# Altium footprint library transformer.PcbLib: 7 footprints
Each footprint in its own frame and in the unit in brackets; x right, y up, seen from the top. Pads: shape width x height; smd on the part's side, far side on the other; paste and mask are expansions set on the pad; w line width, h text height; cw(c..) or ccw(c..) is an arc to the next point about the centre after c.
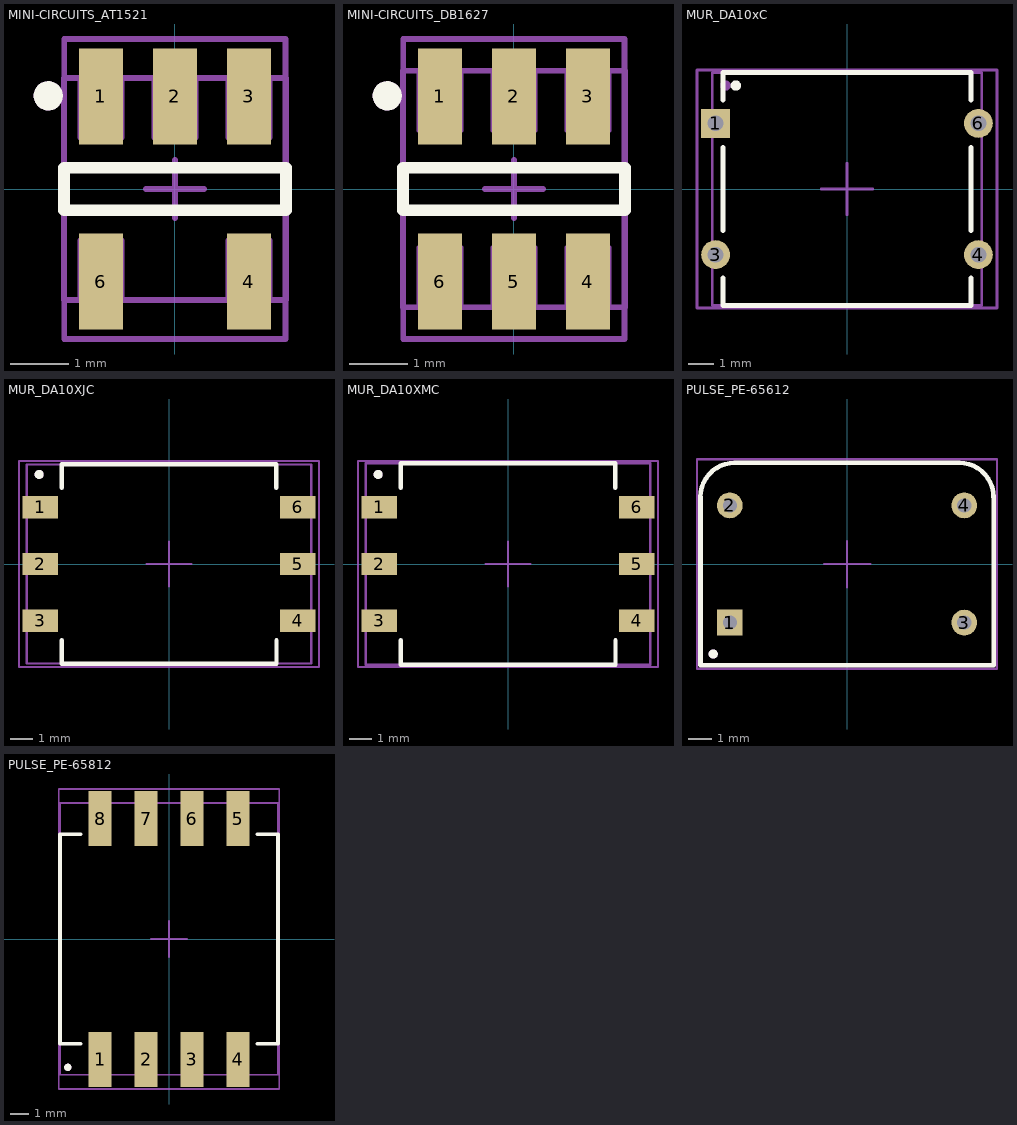
[diagram p0: the footprints below, top view; thin cyan lines are the x and y axes]

## MINI-CIRCUITS_AT1521 [mm] "MINI-CIRCUITS RF Transformer, Case AT1521, Body 3.81X3.81mm"
height 4.06
pads (5):
  rect 0.76x1.65 smd: 1(-1.27,1.59) 2(0,1.59) 3(1.27,1.59) 4(1.27,-1.59) 6(-1.27,-1.59)
Top Overlay:
  circle w0.25: c-2.175,1.6 r0.125
  lines w0.2: -1.905,-0.365 -1.905,0.365 1.905,0.365 1.905,-0.365 -1.905,-0.365
Mechanical 1:
  circle w0.25: c-2.175,1.6 r0.125
  lines w0.1: -1.625,-1.905 -1.625,-0.885 -0.915,-0.885 -0.915,-1.905 ; -1.625,1.905 -1.625,0.885 -0.915,0.885 -0.915,1.905 ; -0.355,1.905 -0.355,0.885 0.355,0.885 0.355,1.905 ; 0.915,-1.905 0.915,-0.885 1.625,-0.885 1.625,-1.905 ; 0.915,1.905 0.915,0.885 1.625,0.885 1.625,1.905 ; -1.905,-1.905 1.905,-1.905 1.905,1.905 -1.905,1.905 -1.905,-1.905
Mechanical 15:
  lines w0.1: -0.5,0 0,0 ; 0,-0.5 0,0 ; 0,0.5 0,0 ; 0.5,0 0,0 ; -1.9,-2.575 -1.9,2.575 1.9,2.575 1.9,-2.575 -1.9,-2.575
3D body "XFMR_MINI-CIRCUITS_AT1521.stp": height 4.06, standoff 0, extent -1.905,-1.905 1.905,1.905

## MINI-CIRCUITS_DB1627 [mm] "MINI-CIRCUITS RF Transformer, Case DB1627 - Body 4.06X3.81mm"
height 4.06
pads (6):
  rect 0.76x1.65 smd: 1(-1.27,1.59) 2(0,1.59) 3(1.27,1.59) 4(1.27,-1.59) 5(0,-1.59) 6(-1.27,-1.59)
Top Overlay:
  circle w0.25: c-2.175,1.6 r0.125
  lines w0.2: -1.905,-0.365 -1.905,0.365 1.905,0.365 1.905,-0.365 -1.905,-0.365
Mechanical 1:
  circle w0.25: c-2.175,1.6 r0.125
  lines w0.1: -1.905,-2.03 -1.905,2.03 1.905,2.03 1.905,-2.03 -1.905,-2.03 ; -1.625,-2.03 -1.625,-1.01 -0.915,-1.01 -0.915,-2.03 -1.625,-2.03 ; -1.625,1.01 -1.625,2.03 -0.915,2.03 -0.915,1.01 -1.625,1.01 ; -0.355,-2.03 -0.355,-1.01 0.355,-1.01 0.355,-2.03 -0.355,-2.03 ; -0.355,1.01 -0.355,2.03 0.355,2.03 0.355,1.01 -0.355,1.01 ; 0.915,-2.03 0.915,-1.01 1.625,-1.01 1.625,-2.03 0.915,-2.03 ; 0.915,1.01 0.915,2.03 1.625,2.03 1.625,1.01 0.915,1.01
Mechanical 15:
  lines w0.1: -0.5,0 0,0 ; 0,-0.5 0,0 ; 0,0.5 0,0 ; 0.5,0 0,0 ; -1.9,-2.575 1.9,-2.575 1.9,2.575 -1.9,2.575 -1.9,-2.575
3D body "XFMR_MINI-CIRCUITS_DB1627.stp": height 4.06, standoff 0, extent -1.905,-2.03 1.905,2.03

## MUR_DA10xC [mil]
pads (4):
  rect 44x44 hole 24: 1(-200,100)
  round 44 hole 24: 3(-200,-100) 4(200,-100) 6(200,100)
Top Overlay:
  circle w7.87: c-169.29,157.48 r3.94
  lines w7.87: -188.98,-135.83 -188.98,-177.17 188.98,-177.17 188.98,-135.83 ; -188.98,-62.99 -188.99,62.99 ; -188.99,135.83 -188.99,177.17 188.98,177.17 188.98,135.83 ; 188.96,62.99 188.98,-62.99
Mechanical 1:
  circle w7.87: c-185.04,157.48 r3.94
  lines w3.94: -205.38,-176.73 204.97,-176.73 204.97,177.23 -205.38,177.23 -205.38,-176.73
Mechanical 15:
  lines w3.94: -39.37,0 39.37,0 ; 0,-39.37 0,39.37 ; -228.35,-181.1 228.35,-181.1 228.35,181.1 -228.35,181.1 -228.35,-181.1
3D body "mps_mag_da100_thd_a.step": height 251.97, standoff -133.46, extent -205.42,-176.82 205,177.51

## MUR_DA10XJC [mm]
pads (6):
  rect 1.6x1 smd: 1(-5.747,2.539) 2(-5.747,-0.001) 3(-5.747,-2.541) 4(5.75,-2.541) 5(5.75,-0.001) 6(5.75,2.539)
Top Overlay:
  circle w0.2: c-5.8,4 r0.1
  lines w0.2: -4.8,-3.4 -4.8,-4.45 4.802,-4.45 4.802,-3.4 ; -4.799,3.4 -4.799,4.45 4.8,4.45 4.8,3.4
Mechanical 1:
  circle w0.2: c-5.8,4 r0.1
  lines w0.1: -6.35,-4.442 -6.35,4.442 6.35,4.442 6.35,-4.442 -6.35,-4.442
Mechanical 15:
  lines w0.1: -1,0 1,0 ; 0,-1 0,1 ; -6.7,-4.6 -6.7,4.6 6.7,4.6 6.7,-4.6 -6.7,-4.6
3D body "mps_mag_da100j_smt_a.step": height 6.6, standoff 0, extent -6.35,-4.445 6.35,4.445

## MUR_DA10XMC [mm]
pads (6):
  rect 1.6x1 smd: 1(-5.747,2.539) 2(-5.747,-0.001) 3(-5.747,-2.541) 4(5.75,-2.541) 5(5.75,-0.001) 6(5.75,2.539)
Top Overlay:
  circle w0.2: c-5.8,4 r0.1
  lines w0.2: -4.8,-3.4 -4.8,-4.5 4.802,-4.5 4.802,-3.4 ; -4.799,3.4 -4.799,4.5 4.8,4.5 4.8,3.4
Mechanical 1:
  circle w0.2: c-5.8,4 r0.1
  lines w0.1: -6.35,-4.5 6.35,-4.5 6.35,4.5 -6.35,4.5 -6.35,-4.5
Mechanical 15:
  lines w0.1: -1,0 1,0 ; 0,-1 0,1 ; -6.7,-4.6 6.7,-4.6 6.7,4.6 -6.7,4.6 -6.7,-4.6
3D body "mps_mag_da100_smt_a.step": height 6.6, standoff 0, extent -6.35,-4.5 6.35,4.5

## PULSE_PE-65612 [mil]
pads (4):
  rect 44x44 / inner round 40.65 / far side rect 44x44 hole 24: 1(-200,-100)
  round 44 hole 24: 2(-200,100) 3(200,-100) 4(200,100)
Top Overlay:
  circle w7.87: c-228.35,-153.54 r3.94
  lines w7.87: -250.08,114.49 cw(c-192.03,114.57) -191.79,172.62 ; -250.08,114.57 -250.08,-172.48 250.02,-172.48 250.02,114.65 ; -192.03,172.62 191.89,172.62 ; 191.81,172.62 cw(c191.89,114.65) 249.86,114.4
Mechanical 1:
  circle w7.87: c-228.35,-153.54 r3.94
  lines w3.94: -250.09,114.55 cw(c-192.04,114.63) -191.79,172.68 ; -250.09,114.63 -250.09,-172.41 250.02,-172.41 250.02,114.72 ; -192.04,172.68 191.89,172.68 ; 191.81,172.68 cw(c191.89,114.72) 249.85,114.47
Mechanical 15:
  lines w3.94: -39.37,0 39.37,0 ; 0,-39.37 0,39.37 ; -255.96,-178.41 -255.96,178.52 255.88,178.52 255.88,-178.41 -255.96,-178.41
3D body "PE-65612NL_3D_SW.STEP": height 240.16, standoff -119.84, extent -249.97,-172.48 250.03,172.52

## PULSE_PE-65812 [mil]
pads (8):
  rect 50x120 smd: 1(-150,-262.5) 2(-50,-262.5) 3(50,-262.5) 4(150,-262.5) 5(150,262.5) 6(50,262.5) 7(-50,262.5) 8(-150,262.5)
Top Overlay:
  circle w7.87: c-220.47,-279.53 r3.94
  lines w7.87: -192.91,-228.35 -237.5,-228.35 -237.5,228.35 -192.91,228.35 ; 192.91,-228.35 237.48,-228.35 237.48,228.35 192.91,228.35
Mechanical 1:
  circle w7.87: c-220.47,-279.53 r3.94
  lines w3.94: -237.52,-295.9 -237.52,296.05 237.46,296.05 237.46,-295.9 -237.52,-295.9
Mechanical 15:
  lines w3.94: -39.37,0 39.37,0 ; 0,-39.37 0,39.37 ; -240.16,-326.77 -240.16,326.77 240.16,326.77 240.16,-326.77 -240.16,-326.77
3D body "PE-65812NL_3D_SW.STEP": height 338.04, standoff -0.94, extent -237.5,-296.11 237.5,296.27